# Altium integrated library NSC DAC.IntLib: 44 symbols (part 2 of 2)
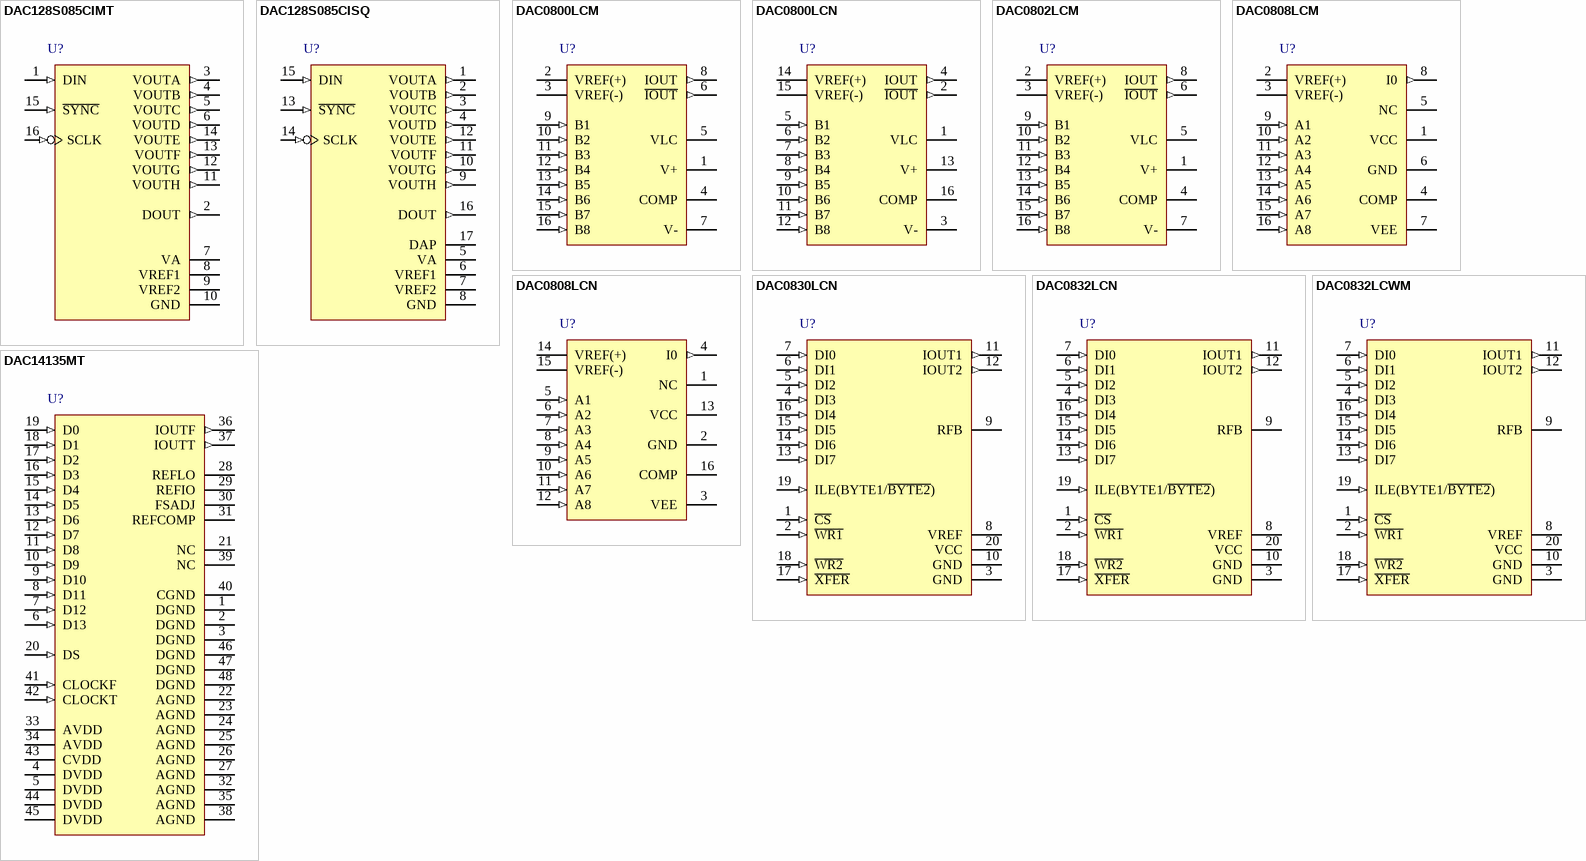
[diagram p2: symbols DAC128S085CIMT to DAC14135MT]

## DAC0830LCN
designator U?
8-bit Microprocessor Compatible, Double-Buffered D/A Converter; PartNumber: DAC0830LCN; Manufacturer: National Semiconductor; PackageTopMarking: NSUZXYYTTE#*DAC0830LCN; PowerWise: N; Published: 4-Dec-2008; DatasheetVersion: Mar-2002; PackageVersion: revG, Nov-1984; PackageReference: N20A; Publisher: Altium Limited; PackageDescription: Molded Dip (N) 20 Lead; CompType: D/A Converter; RoHS: O; PinCount: 20; DigiKeyPartNumber: DAC0830LCN-ND; Code_JEDEC: MS-001-AD; ComponentLink1Description: DAC0830 Datasheet; ComponentLink1URL: http://www.national.com/ds/DA/DAC0830.pdf; ComponentLink2Description: DAC0830 Web Page; ComponentLink2URL: http://www.national.com/pf/DA/DAC0830.html; ComponentLink3Description: N20A Package Page; ComponentLink3URL: http://www.national.com/packaging/folders/n20a.html
footprint N20A (DIP, 20-Leads, Row Spacing 7.62mm, Pitch 2.54mm, Body 26.07x6.6mm)
pins: 1 ~{CS} (in), 2 ~{WR1} (in), 3 GND (power), 4 DI3 (in), 5 DI2 (in), 6 DI1 (in), 7 DI0 (in), 8 VREF (power), 9 RFB, 10 GND (power), 11 IOUT1 (out), 12 IOUT2 (out), 13 DI7 (in), 14 DI6 (in), 15 DI5 (in), 16 DI4 (in), 17 ~{XFER} (in), 18 ~{WR2} (in), 19 ILE(BYTE1/~{BYTE2}) (in), 20 VCC (power)

## DAC0832LCN
designator U?
8-bit Microprocessor Compatible, Double-Buffered D/A Converter; PartNumber: DAC0832LCN; Manufacturer: National Semiconductor; PackageTopMarking: NSUZXYYTTE#*DAC0832LCN; PowerWise: N; Published: 4-Dec-2008; DatasheetVersion: Mar-2002; PackageVersion: revG, Nov-1984; PackageReference: N20A; Publisher: Altium Limited; PackageDescription: Molded Dip (N) 20 Lead; CompType: D/A Converter; RoHS: O; PinCount: 20; DigiKeyPartNumber: DAC0832LCN-ND; Code_JEDEC: MS-001-AD; ComponentLink1Description: DAC0832 Datasheet; ComponentLink1URL: http://www.national.com/ds/DA/DAC0832.pdf; ComponentLink2Description: DAC0832 Web Page; ComponentLink2URL: http://www.national.com/pf/DA/DAC0832.html; ComponentLink3Description: N20A Package Page; ComponentLink3URL: http://www.national.com/packaging/folders/n20a.html
footprint N20A (DIP, 20-Leads, Row Spacing 7.62mm, Pitch 2.54mm, Body 26.07x6.6mm)
pins: 1 ~{CS} (in), 2 ~{WR1} (in), 3 GND (power), 4 DI3 (in), 5 DI2 (in), 6 DI1 (in), 7 DI0 (in), 8 VREF (power), 9 RFB, 10 GND (power), 11 IOUT1 (out), 12 IOUT2 (out), 13 DI7 (in), 14 DI6 (in), 15 DI5 (in), 16 DI4 (in), 17 ~{XFER} (in), 18 ~{WR2} (in), 19 ILE(BYTE1/~{BYTE2}) (in), 20 VCC (power)

## DAC0832LCWM
designator U?
8-bit Microprocessor Compatible, Double-Buffered D/A Converter; PartNumber: DAC0832LCWM; Manufacturer: National Semiconductor; PackageTopMarking: NSUZXYTT*DAC0832*LCWM; PowerWise: N; Published: 4-Dec-2008; DatasheetVersion: Mar-2002; PackageVersion: revG, Jan-1996; PackageReference: M20B; Publisher: Altium Limited; PackageDescription: Molded Package, S0, .300in Wide, 20 Lead; CompType: D/A Converter; RoHS: O; PinCount: 20; DigiKeyPartNumber: DAC0832LCWM-ND; Code_JEDEC: MS-013-AC; Code_IPC: SOIC127P1030-20; ComponentLink1Description: DAC0832 Datasheet; ComponentLink1URL: http://www.national.com/ds/DA/DAC0832.pdf; ComponentLink2Description: DAC0832 Web Page; ComponentLink2URL: http://www.national.com/pf/DA/DAC0832.html; ComponentLink3Description: M20B Package Page; ComponentLink3URL: http://www.national.com/packaging/folders/m20b.html
footprint M20B_N (SOIC, 20-Leads, Body 12.8x7.5mm, Pitch 1.27mm, IPC Medium Density)
footprint M20B_L (SOIC, 20-Leads, Body 12.8x7.5mm, Pitch 1.27mm, IPC High Density)
footprint M20B_M (SOIC, 20-Leads, Body 12.8x7.5mm, Pitch 1.27mm, IPC Low Density)
pins: 1 ~{CS} (in), 2 ~{WR1} (in), 3 GND (power), 4 DI3 (in), 5 DI2 (in), 6 DI1 (in), 7 DI0 (in), 8 VREF (power), 9 RFB, 10 GND (power), 11 IOUT1 (out), 12 IOUT2 (out), 13 DI7 (in), 14 DI6 (in), 15 DI5 (in), 16 DI4 (in), 17 ~{XFER} (in), 18 ~{WR2} (in), 19 ILE(BYTE1/~{BYTE2}) (in), 20 VCC (power)

## DAC14135MT
designator U?
14-Bit, 135MSPS D/A Converter; PartNumber: DAC14135MT; Manufacturer: National Semiconductor; PackageTopMarking: NSUZXYTT*DAC14135MT; Published: 4-Dec-2008; DatasheetVersion: Nov-1999; PackageVersion: revE, Apr-2003; PackageReference: MTD48; Publisher: Altium Limited; PackageDescription: Molded TSSOP, Jedec, 12.5 x 6.1 x 0.9mm Body, 48 Lead, 0.50mm Pitch; CompType: D/A Converter; RoHS: O; PinCount: 48; DigiKeyPartNumber: DAC14135MT-ND; Code_JEDEC: MO-153-ED; ComponentLink1Description: DAC14135 Datasheet; ComponentLink1URL: http://www.national.com/ds/DA/DAC14135.pdf; ComponentLink2Description: DAC14135 Web Page; ComponentLink2URL: http://www.national.com/pf/DA/DAC14135.html; ComponentLink3Description: MTD48 Package Page; ComponentLink3URL: http://www.national.com/packaging/folders/mtd48.html
footprint MTD48_N (TSSOP, 48-Leads, Body 12.5x6.1mm, Pitch 0.5mm, IPC Medium Density)
footprint MTD48_L (TSSOP, 48-Leads, Body 12.5x6.1mm, Pitch 0.5mm, IPC High Density)
footprint MTD48_M (TSSOP, 48-Leads, Body 12.5x6.1mm, Pitch 0.5mm, IPC Low Density)
pins: 1 DGND (power), 2 DGND (power), 3 DGND (power), 4 DVDD (power), 5 DVDD (power), 6 D13 (in), 7 D12 (in), 8 D11 (in), 9 D10 (in), 10 D9 (in), 11 D8 (in), 12 D7 (in), 13 D6 (in), 14 D5 (in), 15 D4 (in), 16 D3 (in), 17 D2 (in), 18 D1 (in), 19 D0 (in), 20 DS (in), 21 NC, 22 AGND (power), 23 AGND (power), 24 AGND (power), 25 AGND (power), 26 AGND (power), 27 AGND (power), 28 REFLO, 29 REFIO, 30 FSADJ, 31 REFCOMP, 32 AGND (power), 33 AVDD (power), 34 AVDD (power), 35 AGND (power), 36 IOUTF (out), 37 IOUTT (out), 38 AGND (power), 39 NC, 40 CGND (power), 41 CLOCKF (in), 42 CLOCKT (in), 43 CVDD (power), 44 DVDD (power), 45 DVDD (power), 46 DGND (power), 47 DGND (power), 48 DGND (power)